# EAGLE library part RJ45-TRAFO-L (library con-amphenol-rj45-nzin)
RJ45 socket with integrated magnetics and LEDs Naming: Amphenol LMJ1998824110DL1T39J TME RJ45-TRAFO-L Author: Petr Kalandra <mailto:kalandrap@gmail.com> Datasheet: http://zefiryn.tme.pl/dok/zlacza/rjtrafol.PDF
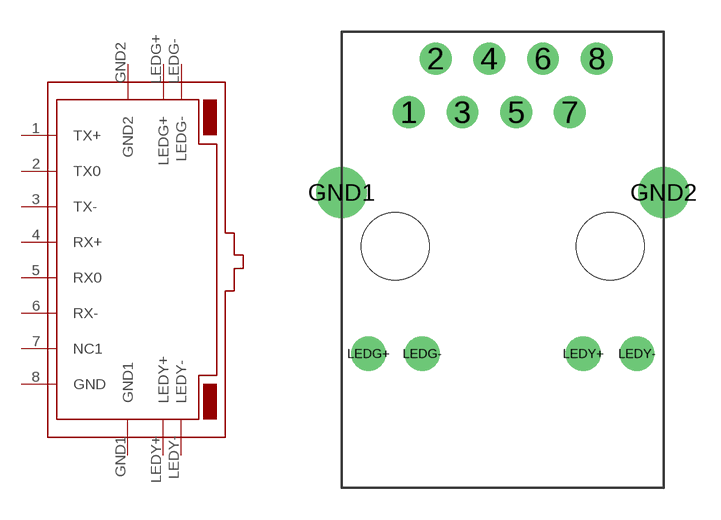
[diagram p0: symbol with the pads of RJ45-TRAFO-L; footprint RJ45-TRAFO-L]

Designator prefix -

## RJ45-TRAFO-L  [RJ45-TRAFO-L]
1  TX+
2  TX0
3  TX-
4  RX+
5  RX0
6  RX-
7  NC1  nc
8  GND  pwr
GND1  GND1  pwr
GND2  GND2  pwr
LEDG+  LEDG+
LEDG-  LEDG-
LEDY+  LEDY+
LEDY-  LEDY-

## Footprint RJ45-TRAFO-L (pad centres in mm)
RJ45 with LED pins
drill 1: 1 -4.445,6.35; 2 -3.175,8.89; 3 -1.905,6.35; 4 -0.635,8.89; 5 0.635,6.35; 6 1.905,8.89; 7 3.175,6.35; 8 4.445,8.89
drill 1.6: GND1 -7.62,2.54; GND2 7.62,2.54
drill 1.1: LEDG+ -6.35,-5.08; LEDG- -3.81,-5.08; LEDY+ 3.81,-5.08; LEDY- 6.35,-5.08
hole 3.2 at -5.08,0
hole 3.2 at 5.08,0